# Altium footprint library Inductor4.PcbLib: 1 footprints
Each footprint in its own frame and in the unit in brackets; x right, y up, seen from the top. Pads: shape width x height; smd on the part's side, far side on the other; paste and mask are expansions set on the pad; w line width, h text height; cw(c..) or ccw(c..) is an arc to the next point about the centre after c.
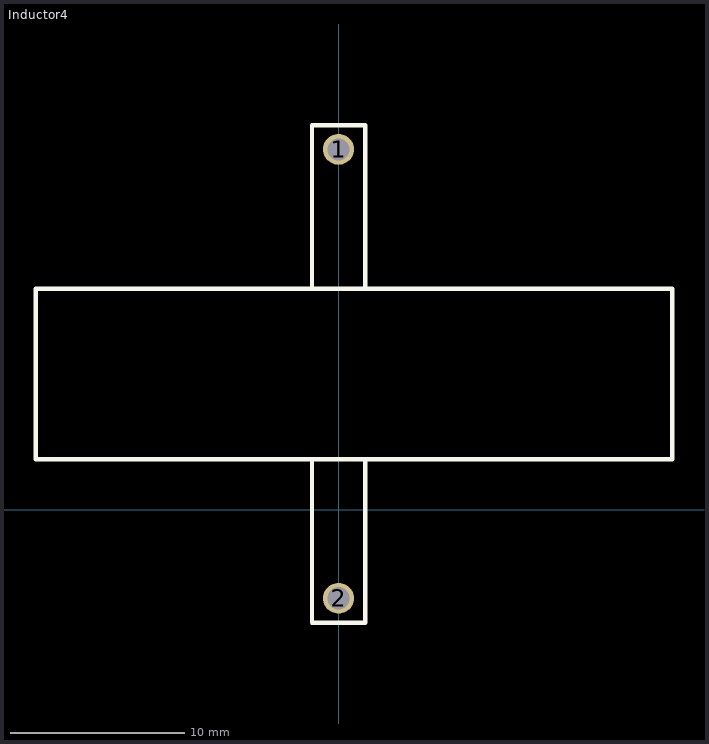
[diagram p0: the footprint, top view; thin cyan lines are the x and y axes]

## Inductor4 [mil]
pads (2):
  round 70 hole 50: 1(0,815.95) 2(0,-200)
Top Overlay:
  lines w10: -60,115 -60,-255 60,-255 60,115 ; -60,500 -60,870 60,870 60,500 ; -685,115 755,115 755,500 -685,500 -685,115